# Altium schematic symbol library aiskylab-14Connectors-19PWRCon.SchLib: 24 symbols
Pins are listed as number, name and electrical type; pins without a type are passive.

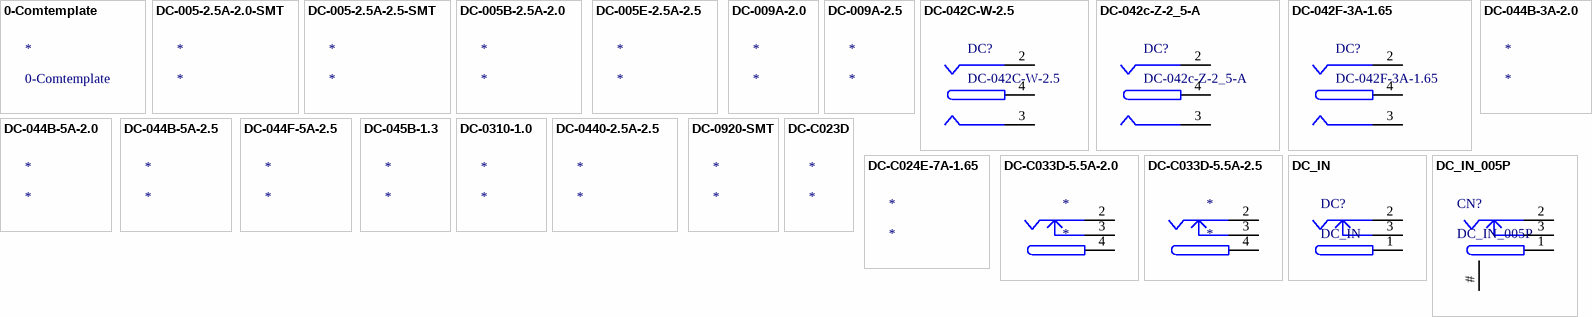
[diagram p0: symbols 0-Comtemplate to DC_IN_005P]

## 0-Comtemplate
designator *
Supplier: *; SupplierPartNumber: *

## DC-005-2.5A-2.0-SMT
designator *

## DC-005-2.5A-2.5-SMT
designator *

## DC-005B-2.5A-2.0
designator *

## DC-005E-2.5A-2.5
designator *

## DC-009A-2.0
designator *

## DC-009A-2.5
designator *

## DC-042C-W-2.5
designator DC?
DC插座 24V 8A; Supplier: JLC; SupplierPartNumber: C480371
footprint DC-042C-Z-2.5-A
pins: 2, 3, 4

## DC-042c-Z-2_5-A
designator DC?
DC插座 20V 10A; Supplier: JLC; SupplierPartNumber: C706901
footprint DC-042C-Z-2.5-A
pins: 2, 3, 4

## DC-042F-3A-1.65
designator DC?
footprint DC-042C-Z-2.5-A
pins: 2, 3, 4

## DC-044B-3A-2.0
designator *

## DC-044B-5A-2.0
designator *

## DC-044B-5A-2.5
designator *

## DC-044F-5A-2.5
designator *

## DC-045B-1.3
designator *

## DC-0310-1.0
designator *

## DC-0440-2.5A-2.5
designator *

## DC-0920-SMT
designator *

## DC-C023D
designator *

## DC-C024E-7A-1.65
designator *

## DC-C033D-5.5A-2.0
designator *
pins: 2, 3, 4

## DC-C033D-5.5A-2.5
designator *
DC插座; Supplier: *; SupplierPartNumber: *
pins: 2, 3, 4

## DC_IN
designator DC?
DC插座; Supplier: *; SupplierPartNumber: *
footprint PJ-058A (CONN PWR JACK 2X5.5MM SOLDER  CUI inc)
pins: 1, 2, 3

## DC_IN_005P
designator CN?
DC插座; Supplier: *; SupplierPartNumber: *
footprint PJ-051AH (CONN PWR JACK 2X5.5MM SOLDER CUI inc.)
pins: 1, 2, 3, #